# Altium schematic symbol library C0603C103F3GECTU.SchLib: 1 symbol
Pins are listed as number, name and electrical type; pins without a type are passive.

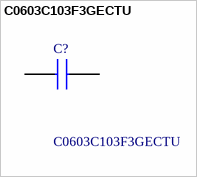
[diagram p0: symbol C0603C103F3GECTU]

## C0603C103F3GECTU
designator C?
ESD SMD Comm C0G, Ceramic, 0.01 uF, 1%, 25 VDC, 62.5 VDC, 125C, -55C, C0G, SMD, MLCC, Temperature Stable, Electro Static Discharge, Class I, 0.1 % , 100 GOhms, 3.7 mg, 0603, 1.6mm, 0.8mm, 0.8mm, 0.7mm, 0.35mm, 4000, 78  Weeks, 120; Manufacturer_Name: YAGEO; Geometry.Height: 0.87mm; Manufacturer_Part_Number: C0603C103F3GECTU; Mouser Part Number: 80-C0603C103F3GEC; Mouser Price/Stock: https://www.mouser.co.uk/ProductDetail/KEMET/C0603C103F3GECTU?qs=Mv7BduZupUjWMY5EogEjUg%3D%3D; Arrow Part Number: *; Arrow Price/Stock: *; Datasheet Link: https://content.kemet.com/datasheets/KEM_C1003_C0G_SMD.pdf
footprint CAPC1608X87N
pins: 1, 2